# Altium footprint library marks.PCBLIB: 21 footprints (part 1 of 2)
Each footprint in its own frame and in the unit in brackets; x right, y up, seen from the top. Pads: shape width x height; smd on the part's side, far side on the other; paste and mask are expansions set on the pad; w line width, h text height; cw(c..) or ccw(c..) is an arc to the next point about the centre after c.
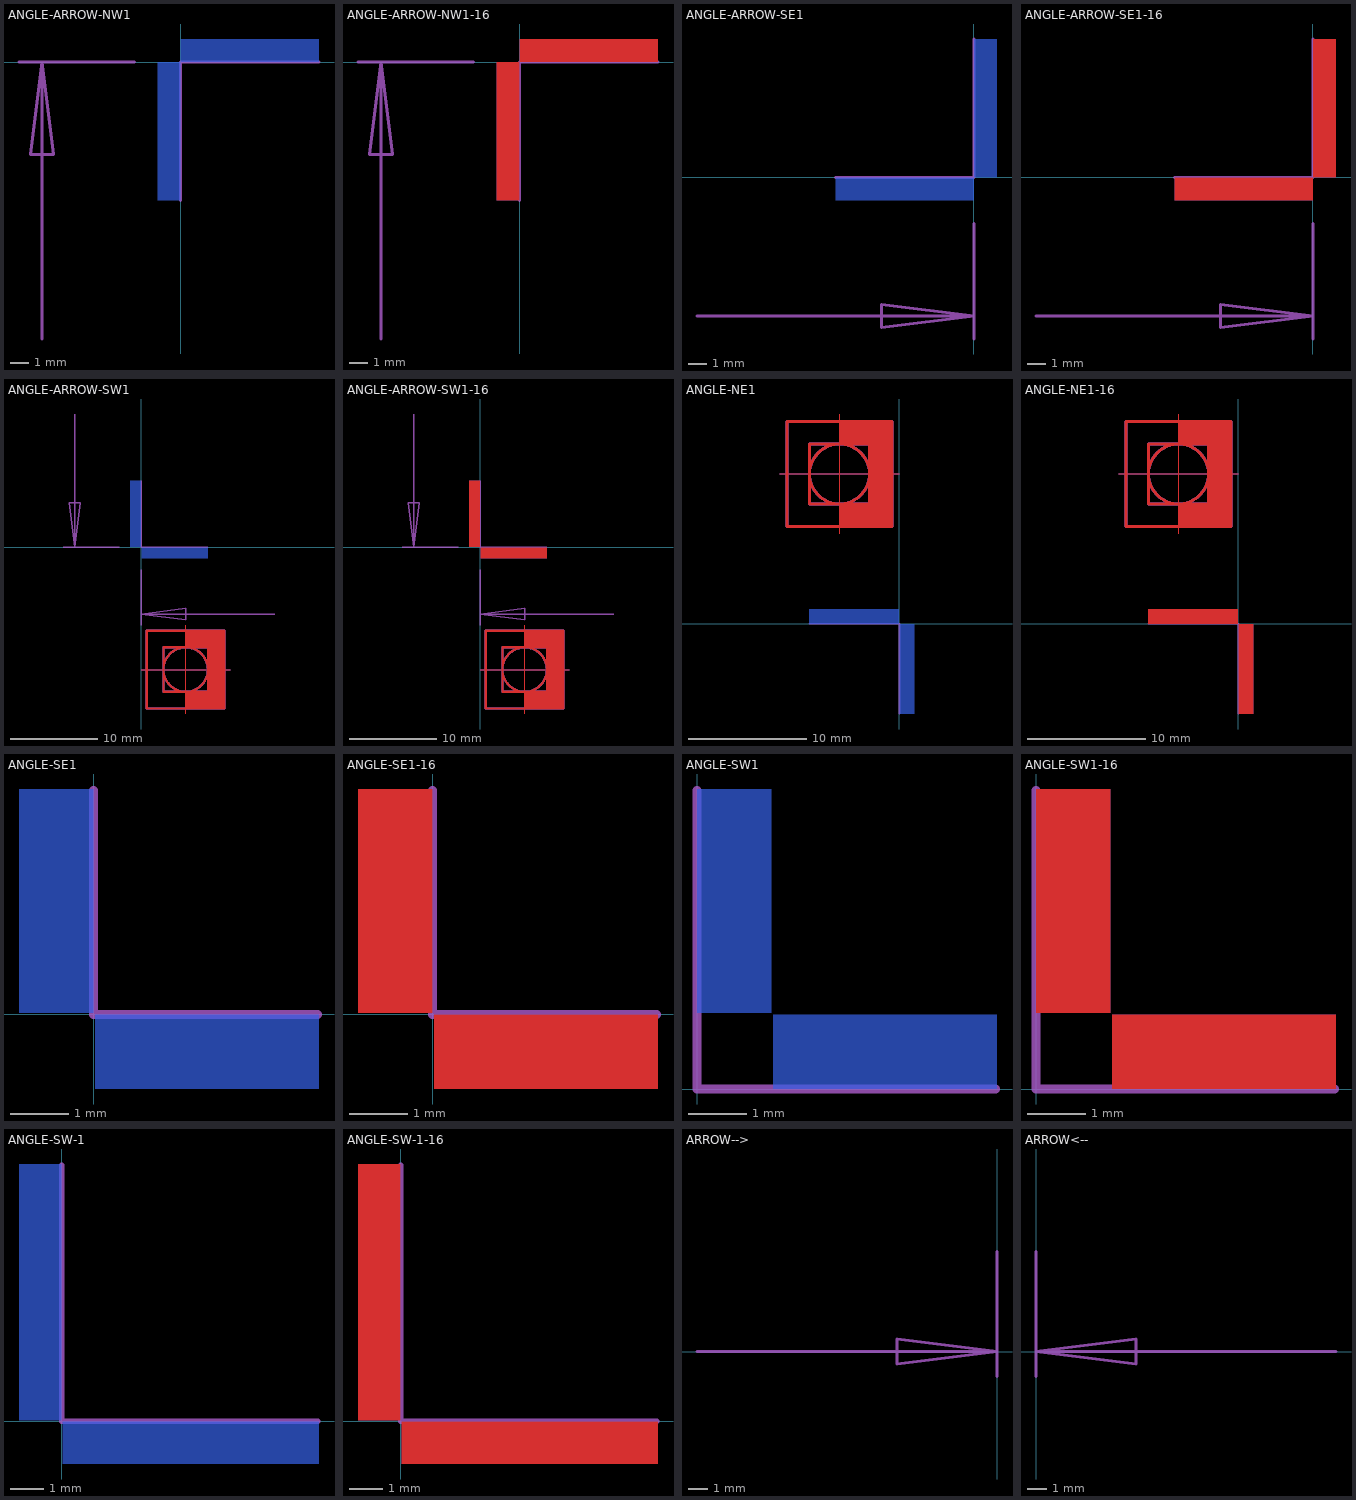
[diagram p0: the footprints below, top view; thin cyan lines are the x and y axes]

## ANGLE-ARROW-NW1 [mm]
Bottom Layer:
  rectangle: -1.27,-7.62 0,0
  rectangle: 0,0 7.62,1.27
Bottom Solder:
  lines w0.127: 0,-7.62 0,0 7.62,0
Mechanical 12:
  lines w0.152: -8.89,0 -7.62,0 ; -7.62,-15.24 -7.62,0 ; -2.54,0 -7.62,0 ; 0,-7.62 0,0 7.62,0 ; -7.62,0 -6.985,-5.08 -8.255,-5.08 -7.62,0

## ANGLE-ARROW-NW1-16 [mm]
Top Layer:
  rectangle: -1.27,-7.62 0,0
  rectangle: 0,0 7.62,1.27
Bottom Layer:
  rectangle: -1.27,-7.62 0,0
  rectangle: 0,0 7.62,1.27
Top Solder:
  lines w0.127: 0,-7.62 0,0 7.62,0
Bottom Solder:
  lines w0.127: 0,-7.62 0,0 7.62,0
Mechanical 12:
  lines w0.152: -8.89,0 -7.62,0 ; -7.62,-15.24 -7.62,0 ; -2.54,0 -7.62,0 ; 0,-7.62 0,0 7.62,0 ; -7.62,0 -6.985,-5.08 -8.255,-5.08 -7.62,0

## ANGLE-ARROW-SE1 [mm]
Bottom Layer:
  rectangle: -7.62,-1.27 0,0
  rectangle: 0,0 1.27,7.62
Bottom Solder:
  lines w0.127: -7.62,0 0,0 0,7.62
Mechanical 12:
  lines w0.152: -15.24,-7.62 0,-7.62 ; -7.62,0 0,0 0,7.62 ; 0,-8.89 0,-7.62 ; 0,-2.54 0,-7.62 ; 0,-7.62 -5.08,-8.255 -5.08,-6.985 0,-7.62

## ANGLE-ARROW-SE1-16 [mm]
Top Layer:
  rectangle: -7.62,-1.27 0,0
  rectangle: 0,0 1.27,7.62
Bottom Layer:
  rectangle: -7.62,-1.27 0,0
  rectangle: 0,0 1.27,7.62
Top Solder:
  lines w0.127: -7.62,0 0,0 0,7.62
Bottom Solder:
  lines w0.127: -7.62,0 0,0 0,7.62
Mechanical 12:
  lines w0.152: -15.24,-7.62 0,-7.62 ; -7.62,0 0,0 0,7.62 ; 0,-8.89 0,-7.62 ; 0,-2.54 0,-7.62 ; 0,-7.62 -5.08,-8.255 -5.08,-6.985 0,-7.62

## ANGLE-ARROW-SW1 [mm]
Top Layer:
  circle w0.254: c5.08,-13.97 r2.54
  rectangle: 5.08,-18.415 9.525,-16.51
  rectangle: 7.62,-16.51 9.525,-11.43
  rectangle: 5.08,-11.43 9.525,-9.525
  lines w0.102: 0,-13.97 0.635,-13.97 10.16,-13.97 ; 5.08,-19.05 5.08,-8.89
  lines w0.254: 0.635,-18.415 9.525,-18.415 9.525,-9.525 0.635,-9.525 0.635,-13.97 0.635,-18.415 ; 2.54,-16.51 2.54,-11.43 7.62,-11.43 7.62,-16.51 2.54,-16.51
Bottom Layer:
  circle w0.254: c5.08,-13.97 r2.54
  rectangle: -1.27,0.025 0,7.645
  rectangle: 0.025,-1.27 7.645,0
  rectangle: 5.08,-18.415 9.525,-16.51
  rectangle: 7.62,-16.51 9.525,-11.43
  rectangle: 5.08,-11.43 9.525,-9.525
  lines w0.102: 0,-13.97 0.635,-13.97 10.16,-13.97 ; 5.08,-19.05 5.08,-8.89
  lines w0.254: 0.635,-18.415 9.525,-18.415 9.525,-9.525 0.635,-9.525 0.635,-13.97 0.635,-18.415 ; 2.54,-16.51 2.54,-11.43 7.62,-11.43 7.62,-16.51 2.54,-16.51
Top Solder:
  rectangle: 0,-19.05 10.16,-8.89
Bottom Solder:
  rectangle: 0,-19.05 10.16,-8.89
  lines w0.127: 0,7.62 0,0 7.62,0
Mechanical 12:
  lines w0.152: -8.89,0 -7.62,0 ; -7.62,15.24 -7.62,0 ; -2.54,0 -7.62,0 ; 0,-8.89 0,-7.62 ; 0,-2.54 0,-7.62 ; 0,7.62 0,0 7.62,0 ; 15.24,-7.62 0,-7.62 ; -7.62,0 -8.255,5.08 -6.985,5.08 -7.62,0 ; 0,-7.62 5.08,-6.985 5.08,-8.255 0,-7.62
Mechanical 14:
  circle w0.254: c5.08,-13.97 r2.54
  rectangle: 5.08,-18.415 9.525,-16.51
  rectangle: 7.62,-16.51 9.525,-11.43
  rectangle: 5.08,-11.43 9.525,-9.525
  lines w0.102: 0,-13.97 0.635,-13.97 10.16,-13.97 ; 5.08,-19.05 5.08,-8.89
  lines w0.254: 0.635,-18.415 9.525,-18.415 9.525,-9.525 0.635,-9.525 0.635,-13.97 0.635,-18.415 ; 2.54,-16.51 2.54,-11.43 7.62,-11.43 7.62,-16.51 2.54,-16.51

## ANGLE-ARROW-SW1-16 [mm]
Top Layer:
  circle w0.254: c5.08,-13.97 r2.54
  rectangle: -1.27,0.025 0,7.645
  rectangle: 0.025,-1.27 7.645,0
  rectangle: 5.08,-18.415 9.525,-16.51
  rectangle: 7.62,-16.51 9.525,-11.43
  rectangle: 5.08,-11.43 9.525,-9.525
  lines w0.102: 0,-13.97 0.635,-13.97 10.16,-13.97 ; 5.08,-19.05 5.08,-8.89
  lines w0.254: 0.635,-18.415 9.525,-18.415 9.525,-9.525 0.635,-9.525 0.635,-13.97 0.635,-18.415 ; 2.54,-16.51 2.54,-11.43 7.62,-11.43 7.62,-16.51 2.54,-16.51
Bottom Layer:
  circle w0.254: c5.08,-13.97 r2.54
  rectangle: -1.27,0.025 0,7.645
  rectangle: 0.025,-1.27 7.645,0
  rectangle: 5.08,-18.415 9.525,-16.51
  rectangle: 7.62,-16.51 9.525,-11.43
  rectangle: 5.08,-11.43 9.525,-9.525
  lines w0.102: 0,-13.97 0.635,-13.97 10.16,-13.97 ; 5.08,-19.05 5.08,-8.89
  lines w0.254: 0.635,-18.415 9.525,-18.415 9.525,-9.525 0.635,-9.525 0.635,-13.97 0.635,-18.415 ; 2.54,-16.51 2.54,-11.43 7.62,-11.43 7.62,-16.51 2.54,-16.51
Top Solder:
  rectangle: 0,-19.05 10.16,-8.89
  lines w0.127: 0,7.62 0,0 7.62,0
Bottom Solder:
  rectangle: 0,-19.05 10.16,-8.89
  lines w0.127: 0,7.62 0,0 7.62,0
Mechanical 12:
  lines w0.152: -8.89,0 -7.62,0 ; -7.62,15.24 -7.62,0 ; -2.54,0 -7.62,0 ; 0,-8.89 0,-7.62 ; 0,-2.54 0,-7.62 ; 0,7.62 0,0 7.62,0 ; 15.24,-7.62 0,-7.62 ; -7.62,0 -8.255,5.08 -6.985,5.08 -7.62,0 ; 0,-7.62 5.08,-6.985 5.08,-8.255 0,-7.62
Mechanical 14:
  circle w0.254: c5.08,-13.97 r2.54
  rectangle: 5.08,-18.415 9.525,-16.51
  rectangle: 7.62,-16.51 9.525,-11.43
  rectangle: 5.08,-11.43 9.525,-9.525
  lines w0.102: 0,-13.97 0.635,-13.97 10.16,-13.97 ; 5.08,-19.05 5.08,-8.89
  lines w0.254: 0.635,-18.415 9.525,-18.415 9.525,-9.525 0.635,-9.525 0.635,-13.97 0.635,-18.415 ; 2.54,-16.51 2.54,-11.43 7.62,-11.43 7.62,-16.51 2.54,-16.51

## ANGLE-NE1 [mm]
Top Layer:
  circle w0.254: c-5.08,12.7 r2.54
  rectangle: -5.08,8.255 -0.635,10.16
  rectangle: -2.54,10.16 -0.635,15.24
  rectangle: -5.08,15.24 -0.635,17.145
  lines w0.102: -10.16,12.7 -9.525,12.7 0,12.7 ; -5.08,7.62 -5.08,17.78
  lines w0.254: -9.525,8.255 -0.635,8.255 -0.635,17.145 -9.525,17.145 -9.525,12.7 -9.525,8.255 ; -7.62,10.16 -7.62,15.24 -2.54,15.24 -2.54,10.16 -7.62,10.16
Bottom Layer:
  circle w0.254: c-5.08,12.7 r2.54
  rectangle: -7.645,0 -0.025,1.27
  rectangle: 0,-7.645 1.27,-0.025
  rectangle: -5.08,8.255 -0.635,10.16
  rectangle: -2.54,10.16 -0.635,15.24
  rectangle: -5.08,15.24 -0.635,17.145
  lines w0.102: -10.16,12.7 -9.525,12.7 0,12.7 ; -5.08,7.62 -5.08,17.78
  lines w0.254: -9.525,8.255 -0.635,8.255 -0.635,17.145 -9.525,17.145 -9.525,12.7 -9.525,8.255 ; -7.62,10.16 -7.62,15.24 -2.54,15.24 -2.54,10.16 -7.62,10.16
Top Solder:
  rectangle: -10.16,7.62 0,17.78
Bottom Solder:
  rectangle: -10.16,7.62 0,17.78
  lines w0.127: -7.62,0 0,0 0,-7.62
Mechanical 12:
  lines w0.152: -7.62,0 0,0 0,-7.62
Mechanical 14:
  circle w0.254: c-5.08,12.7 r2.54
  rectangle: -5.08,8.255 -0.635,10.16
  rectangle: -2.54,10.16 -0.635,15.24
  rectangle: -5.08,15.24 -0.635,17.145
  lines w0.102: -10.16,12.7 -9.525,12.7 0,12.7 ; -5.08,7.62 -5.08,17.78
  lines w0.254: -9.525,8.255 -0.635,8.255 -0.635,17.145 -9.525,17.145 -9.525,12.7 -9.525,8.255 ; -7.62,10.16 -7.62,15.24 -2.54,15.24 -2.54,10.16 -7.62,10.16

## ANGLE-NE1-16 [mm]
Top Layer:
  circle w0.254: c-5.08,12.7 r2.54
  rectangle: -7.645,0 -0.025,1.27
  rectangle: 0,-7.645 1.27,-0.025
  rectangle: -5.08,8.255 -0.635,10.16
  rectangle: -2.54,10.16 -0.635,15.24
  rectangle: -5.08,15.24 -0.635,17.145
  lines w0.102: -10.16,12.7 -9.525,12.7 0,12.7 ; -5.08,7.62 -5.08,17.78
  lines w0.254: -9.525,8.255 -0.635,8.255 -0.635,17.145 -9.525,17.145 -9.525,12.7 -9.525,8.255 ; -7.62,10.16 -7.62,15.24 -2.54,15.24 -2.54,10.16 -7.62,10.16
Bottom Layer:
  circle w0.254: c-5.08,12.7 r2.54
  rectangle: -7.645,0 -0.025,1.27
  rectangle: 0,-7.645 1.27,-0.025
  rectangle: -5.08,8.255 -0.635,10.16
  rectangle: -2.54,10.16 -0.635,15.24
  rectangle: -5.08,15.24 -0.635,17.145
  lines w0.102: -10.16,12.7 -9.525,12.7 0,12.7 ; -5.08,7.62 -5.08,17.78
  lines w0.254: -9.525,8.255 -0.635,8.255 -0.635,17.145 -9.525,17.145 -9.525,12.7 -9.525,8.255 ; -7.62,10.16 -7.62,15.24 -2.54,15.24 -2.54,10.16 -7.62,10.16
Top Solder:
  rectangle: -10.16,7.62 0,17.78
  lines w0.127: -7.62,0 0,0 0,-7.62
Bottom Solder:
  rectangle: -10.16,7.62 0,17.78
  lines w0.127: -7.62,0 0,0 0,-7.62
Mechanical 12:
  lines w0.152: -7.62,0 0,0 0,-7.62
Mechanical 14:
  circle w0.254: c-5.08,12.7 r2.54
  rectangle: -5.08,8.255 -0.635,10.16
  rectangle: -2.54,10.16 -0.635,15.24
  rectangle: -5.08,15.24 -0.635,17.145
  lines w0.102: -10.16,12.7 -9.525,12.7 0,12.7 ; -5.08,7.62 -5.08,17.78
  lines w0.254: -9.525,8.255 -0.635,8.255 -0.635,17.145 -9.525,17.145 -9.525,12.7 -9.525,8.255 ; -7.62,10.16 -7.62,15.24 -2.54,15.24 -2.54,10.16 -7.62,10.16

## ANGLE-SE1 [mm]
Bottom Layer:
  rectangle: -1.27,0.025 0,3.835
  rectangle: 0.025,-1.27 3.835,0
Bottom Solder:
  lines w0.127: 0,3.81 0,0 3.81,0
Mechanical 12:
  lines w0.152: 0,3.81 0,0 3.81,0

## ANGLE-SE1-16 [mm]
Top Layer:
  rectangle: -1.27,0.025 0,3.835
  rectangle: 0.025,-1.27 3.835,0
Bottom Layer:
  rectangle: -1.27,0.025 0,3.835
  rectangle: 0.025,-1.27 3.835,0
Top Solder:
  lines w0.127: 0,3.81 0,0 3.81,0
Bottom Solder:
  lines w0.127: 0,3.81 0,0 3.81,0
Mechanical 12:
  lines w0.152: 0,3.81 0,0 3.81,0

## ANGLE-SW1 [mm]
Bottom Layer:
  rectangle: 0,1.295 1.27,5.105
  rectangle: 1.295,0 5.105,1.27
Bottom Solder:
  lines w0.127: 0,5.08 0,0 5.08,0
Mechanical 12:
  lines w0.152: 0,5.08 0,0 5.08,0

## ANGLE-SW1-16 [mm]
Top Layer:
  rectangle: 0,1.295 1.27,5.105
  rectangle: 1.295,0 5.105,1.27
Bottom Layer:
  rectangle: 0,1.295 1.27,5.105
  rectangle: 1.295,0 5.105,1.27
Top Solder:
  lines w0.127: 0,5.08 0,0 5.08,0
Bottom Solder:
  lines w0.127: 0,5.08 0,0 5.08,0
Mechanical 12:
  lines w0.152: 0,5.08 0,0 5.08,0

## ANGLE-SW-1 [mm]
Bottom Layer:
  rectangle: -1.27,0.025 0,7.645
  rectangle: 0.025,-1.27 7.645,0
Bottom Solder:
  lines w0.127: 0,7.62 0,0 7.62,0
Mechanical 12:
  lines w0.152: 0,7.62 0,0 7.62,0

## ANGLE-SW-1-16 [mm]
Top Layer:
  rectangle: -1.27,0.025 0,7.645
  rectangle: 0.025,-1.27 7.645,0
Bottom Layer:
  rectangle: -1.27,0.025 0,7.645
  rectangle: 0.025,-1.27 7.645,0
Top Solder:
  lines w0.127: 0,7.62 0,0 7.62,0
Bottom Solder:
  lines w0.127: 0,7.62 0,0 7.62,0
Mechanical 12:
  lines w0.152: 0,7.62 0,0 7.62,0

## ARROW--> [mm]
Mechanical 12:
  lines w0.152: -15.24,0 0,0 ; 0,-1.27 0,0 ; 0,5.08 0,0 ; 0,0 -5.08,-0.635 -5.08,0.635 0,0

## ARROW<-- [mm]
Mechanical 12:
  lines w0.152: 0,-1.27 0,0 ; 0,5.08 0,0 ; 15.24,0 0,0 ; 0,0 5.08,0.635 5.08,-0.635 0,0